# Altium footprint library KF Connector.PcbLib: 12 footprints
Each footprint in its own frame and in the unit in brackets; x right, y up, seen from the top. Pads: shape width x height; smd on the part's side, far side on the other; paste and mask are expansions set on the pad; w line width, h text height; cw(c..) or ccw(c..) is an arc to the next point about the centre after c.
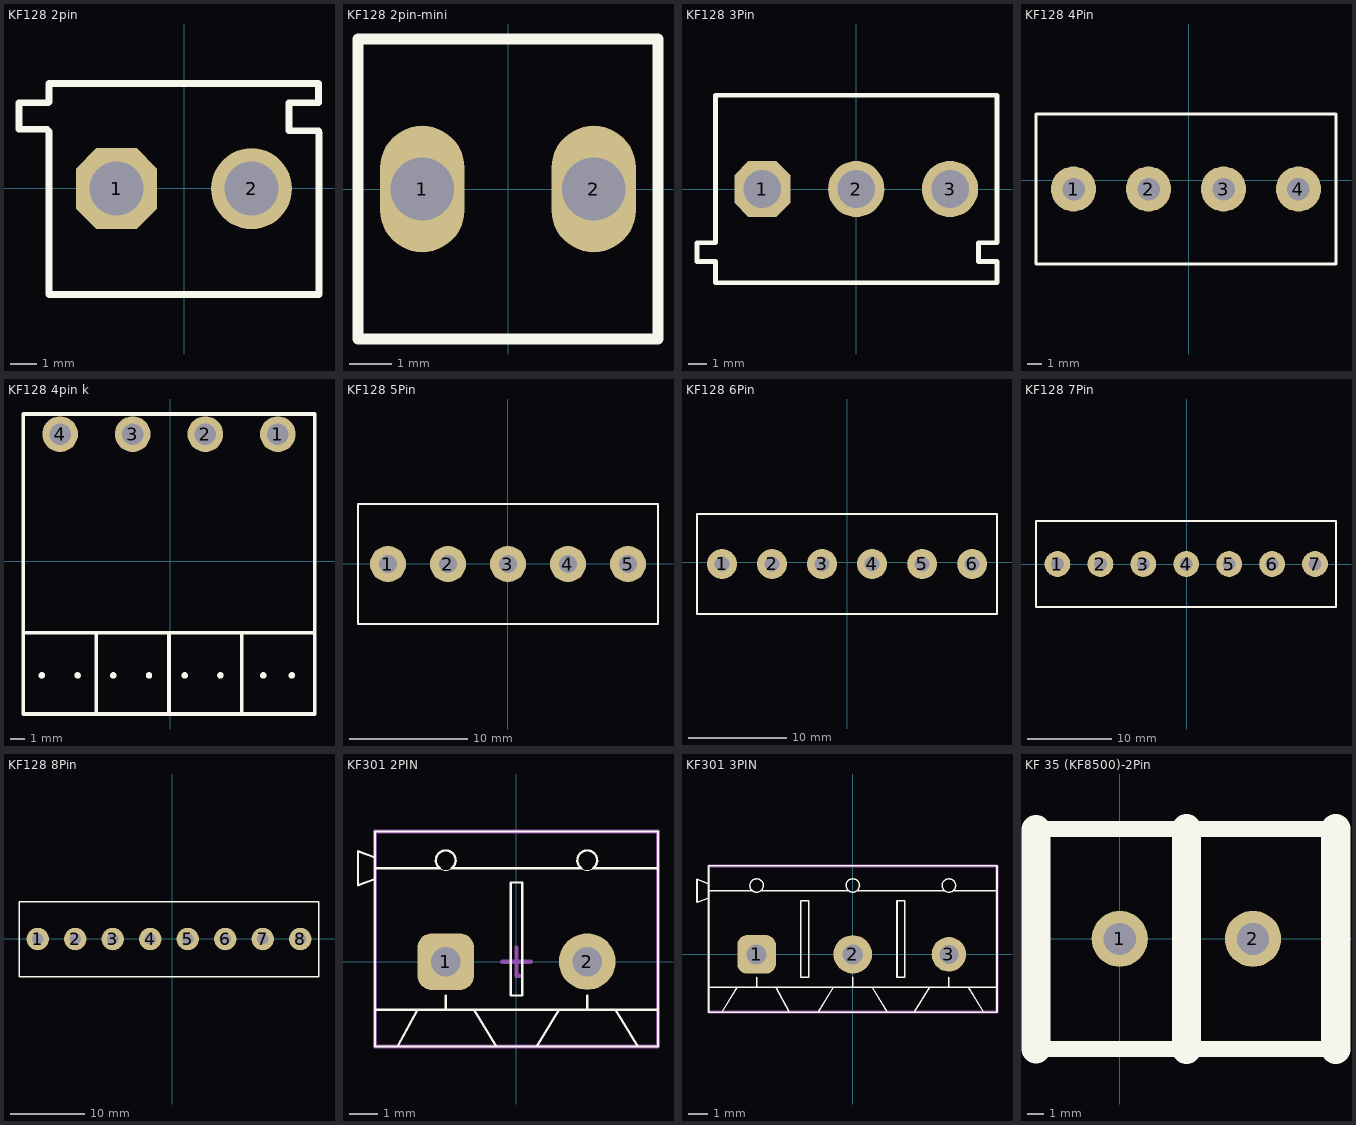
[diagram p0: the footprints below, top view; thin cyan lines are the x and y axes]

## KF128 2pin [mil]
height 393.7
pads (2):
  oct 120x120 hole 80: 1(-100.5,-0.5)
  round 120 hole 80: 2(99.5,-0.5)
Top Overlay:
  lines w10: -245,87.44 -245,126.81 -201.63,126.81 ; -244.37,87.44 -203.58,87.44 -200.5,84.36 ; -200.5,82.68 -200.5,-157.48 199.5,-157.48 199.5,82.68 ; -200.5,127.95 -200.5,155.51 198.82,155.51 198.82,126.81 155,126.81 ; 155,125.47 155,85.47 199,85.47
3D body "SW3dPS-CN_BT_1X2.STEP": height 413.39, standoff -70.23, extent -214.57,-153.54 198.82,149.61

## KF128 2pin-mini [mm]
height 0.6
pads (2):
  oval 2x3 hole 1.5: 1(-2.032,0) 2(2.032,0)
Top Overlay:
  lines w0.254: -3.556,-3.556 3.556,-3.556 3.556,3.556 -3.556,3.556 -3.556,-3.556

## KF128 3Pin [mil]
pads (3):
  oct 120x120 hole 80: 1(-200,0)
  round 120 hole 80: 2(0,0) 3(200,0)
Top Overlay:
  lines w10: -339.5,-115.13 -339.5,-154.5 -300.13,-154.5 ; -339.5,-114.5 -300.13,-114.5 -300.13,199.87 ; -300,-154.63 -300,-200 300,-200 300,-154.63 ; -300,200 300,200 ; 260.5,-115.13 260.5,-154.5 299.87,-154.5 ; 260.5,-114.5 299.87,-114.5 299.87,199.87
3D body "SW3dPS-STELVIO-CII-5-3-250V-17A.STEP": height 413.39, standoff -169.29, extent -295.27,-154.96 295.28,160

## KF128 4Pin [mil]
pads (4):
  round 120 hole 60: 1(-307.92,-22.85) 2(-107.92,-22.85) 3(92.08,-22.85) 4(292.08,-22.85)
Top Overlay:
  lines w8: -407.92,-222.85 -407.92,177.15 392.08,177.15 392.08,-222.85 -407.92,-222.85
3D body "SW3dPS-CN_BT_1X2.STEP": height 393.7, standoff -89.92, extent -9.84,-174.21 403.54,128.94
3D body "SW3dPS-CN_BT_1X2.STEP": height 393.7, standoff -89.92, extent -407.48,-174.21 5.91,128.94

## KF128 4pin k [mm]
height 0.025
pads (4):
  round 2.5 hole 1.5: 1(7.52,8.89) 2(2.44,8.89) 3(-2.64,8.89) 4(-7.72,8.89)
Top Overlay:
  circle w0.254: c-9,-8 r0.1
  circle w0.254: c-6.5,-8 r0.1
  circle w0.254: c-4,-8 r0.1
  circle w0.254: c-1.5,-8 r0.1
  circle w0.254: c1,-8 r0.1
  circle w0.254: c3.5,-8 r0.1
  circle w0.254: c6.5,-8 r0.1
  circle w0.254: c8.5,-8 r0.1
  lines w0.254: -10.3,-5 10.1,-5 ; -5.3,-5 -5.2,-5 -5.2,-10.7 ; -0.2,-5 -0.1,-5 -0.1,-10.7 ; 5,-10.7 5,-5 5.1,-5 ; -10.3,-10.7 10.1,-10.7 10.1,10.3 -10.3,10.3 -10.3,-10.7
3D body "User Library-Connector 4 Pins.STEP": height 17, standoff -2.79, extent -9.984,-11.433 9.984,10.6

## KF128 5Pin [mil]
pads (5):
  round 120 hole 60: 1(-399.45,-1) 2(-199.45,-1) 3(0.55,-1) 4(200.55,-1) 5(400.55,-1)
Top Overlay:
  lines w8: -499.45,-201 500.55,-201 500.55,199 -499.45,199 -499.45,-201
3D body "SW3dPS-STELVIO-CII-5-3-250V-17A.STEP": height 413.39, standoff -169.29, extent -94.73,-155.96 495.82,159
3D body "SW3dPS-CN_BT_1X2.STEP": height 413.39, standoff -70.23, extent -513.52,-154.04 -100.13,149.11

## KF128 6Pin [mil]
pads (6):
  round 120 hole 60: 1(-500.83,-6.12) 2(-300.83,-6.12) 3(-100.83,-6.12) 4(99.17,-6.12) 5(299.17,-6.12) 6(499.17,-6.12)
Top Overlay:
  lines w8: -600.83,-206.12 598.43,-206.12 598.43,193.88 -600.83,193.88 -600.83,-206.12
3D body "SW3dPS-CN_BT_1X2.STEP": height 393.7, standoff -89.92, extent -202.76,-156.5 210.63,146.65
3D body "SW3dPS-CN_BT_1X2.STEP": height 393.7, standoff -89.92, extent -600.39,-156.5 -187.01,146.65
3D body "SW3dPS-CN_BT_1X2.STEP": height 393.7, standoff -89.92, extent 195.87,-157.48 609.25,145.67

## KF128 7Pin [mil]
pads (7):
  round 120 hole 60: 1(-601.97,0.54) 2(-401.97,0.54) 3(-201.97,0.54) 4(-1.97,0.54) 5(198.03,0.54) 6(398.03,0.54) 7(598.03,0.54)
Top Overlay:
  lines w8: -701.97,-199.46 695.87,-199.46 695.87,200.54 -701.97,200.54 -701.97,-199.46

## KF128 8Pin [mil]
pads (8):
  round 120 hole 60: 1(-716.15,-1.43) 2(-516.15,-1.43) 3(-316.15,-1.43) 4(-116.15,-1.43) 5(83.85,-1.43) 6(283.85,-1.43) 7(483.85,-1.43) 8(683.85,-1.43)
Top Overlay:
  lines w8: -816.15,-201.43 -816.15,198.57 783.85,198.57 783.85,-201.43 -816.15,-201.43
3D body "SW3dPS-CN_BT_1X2.STEP": height 393.7, standoff -89.92, extent -416.34,-148.62 -2.95,154.53
3D body "SW3dPS-CN_BT_1X2.STEP": height 393.7, standoff -89.92, extent -813.98,-148.62 -400.59,154.53
3D body "SW3dPS-CN_BT_1X2.STEP": height 393.7, standoff -89.92, extent 379.92,-148.62 793.31,154.53
3D body "SW3dPS-CN_BT_1X2.STEP": height 393.7, standoff -89.92, extent -17.72,-148.62 395.67,154.53

## KF301 2PIN [mm] "Designer Abbas Basereh"
height 7.5
pads (2):
  rrect50% 2x2 hole 1.05: 1(-2.5,0)
  round 2 hole 1.05: 2(2.5,0)
Top Overlay:
  lines w0.013: -2.71,3.3 ccw(c-2.5,3.58) -2.29,3.3 ; 2.29,3.3 ccw(c2.5,3.58) 2.71,3.3
  lines w0.08: -4.2,-3 -3.5,-1.7 -1.5,-1.7 -0.7,-3 ; -2.5,-1.7 -2.5,-1.2 ; 0.7,-3 1.5,-1.7 3.5,-1.7 4.3,-3 ; 2.5,-1.7 2.5,-1.2 ; -5.6,2.7 -5,2.918 ; -5.6,2.7 -5.6,3.9 ; -5.6,2.7 -5,2.918 ; -5.6,2.7 -5.6,3.9 ; -5.6,3.9 -5,3.682 ; -5.6,3.9 -5,3.682 ; -5,-3 -5,-1.7 ; -5,-3 5,-3 ; -5,-3 5,-3 ; -5,-3 -5,2.918 ; -5,-1.7 -5,3.3 ; -5,-1.7 5,-1.7 ; -5,3.3 -5,4.6 ; -5,3.3 -2.71,3.3 cw(c-2.5,3.58) -2.29,3.3 2.29,3.3 cw(c2.5,3.58) 2.71,3.3 5,3.3 ; -5,3.682 -5,4.6 ; -5,4.6 5,4.6 ; -5,4.6 5,4.6 ; 5,-3 5,-1.7 ; 5,-3 5,4.6 ; 5,-1.7 5,3.3 ; 5,3.3 5,4.6 ; -0.2,-1.2 -0.2,2.8 0.2,2.8 0.2,-1.2 -0.2,-1.2
Mechanical 15:
  lines w0.15: -0.5,0 0.5,0 ; 0,0.5 0,-0.5 0.1,-0.5 ; -5,-3 5,-3 5,4.6 -5,4.6 -5,-3
3D body "User Library-Terminal-Screw-3A-2way.STEP": height 10, standoff -3, extent -5.6,-3 5,4.6

## KF301 3PIN [mm] "Designer Abbas Basereh"
height 7.5
pads (3):
  rrect50% 2x2 hole 1.05: 1(-5,0)
  round 2 hole 1.05: 2(0,0)
  round 1.8 hole 1: 3(5,0)
Top Overlay:
  lines w0.08: -6.8,-3 -6,-1.7 -4,-1.7 -3.3,-3 ; -5,-1.7 -5,-1.2 ; -1.8,-3 -1,-1.7 1,-1.7 1.8,-3 ; 0,-1.7 0,-1.2 ; 3.2,-3 4,-1.7 6,-1.7 6.8,-3 ; 5,-1.7 5,-1.2 ; -8.1,2.7 -7.5,2.918 ; -8.1,2.7 -8.1,3.9 ; -8.1,2.7 -8.1,3.9 ; -8.1,2.7 -7.5,2.918 ; -8.1,3.9 -7.5,3.681 ; -8.1,3.9 -7.5,3.681 ; -7.5,-3 -7.5,-1.7 ; -7.5,-3 7.5,-3 ; -7.5,-3 -7.5,2.918 ; -7.5,-3 7.5,-3 ; -7.5,-1.7 -7.5,3.3 ; -7.5,-1.7 7.5,-1.7 ; -7.5,3.3 -7.5,4.6 ; -7.5,3.3 -5.21,3.3 ; -7.5,3.681 -7.5,4.6 ; -7.5,4.6 7.5,4.6 ; -7.5,4.6 7.5,4.6 ; -5.21,3.3 ccw(c-5,3.58) -4.79,3.3 ; -5.21,3.3 cw(c-5,3.58) -4.79,3.3 ; -4.79,3.3 -0.21,3.3 ; -0.21,3.3 ccw(c0,3.58) 0.21,3.3 ; -0.21,3.3 cw(c0,3.58) 0.21,3.3 ; 0.21,3.3 4.79,3.3 ; 4.79,3.3 ccw(c5,3.58) 5.21,3.3 ; 4.79,3.3 cw(c5,3.58) 5.21,3.3 ; 5.21,3.3 7.5,3.3 ; 7.5,-3 7.5,-1.7 ; 7.5,-3 7.5,4.6 ; 7.5,-1.7 7.5,3.3 ; 7.5,3.3 7.5,4.6 ; -2.7,-1.2 -2.3,-1.2 -2.3,2.8 -2.7,2.8 -2.7,-1.2 ; 2.3,-1.2 2.3,2.8 2.7,2.8 2.7,-1.2 2.3,-1.2
Mechanical 15:
  lines w0.15: -7.5,-3 7.5,-3 7.5,4.6 -7.5,4.6 -7.5,-3
3D body "User Library-Terminal-Screw-3A-3way.STEP": height 10, standoff -3, extent -8.1,-3 7.5,4.6

## KF 35 (KF8500)-2Pin [mm]
pads (2):
  round 3.5 hole 2: 1(0,0) 2(8.3,0)
Top Overlay:
  lines w0.203: -5.22,6.813 -5.175,6.858
  lines w1: -5.175,-6.875 13.475,-6.875 ; -5.175,6.858 13.475,6.858
  lines w1.82: -5.22,-6.858 -5.22,6.813 ; 4.15,-6.875 4.15,6.858 ; 13.462,-6.875 13.462,6.858
3D body "User Library-KF7 2 pinos-1.STEP": height 12.6, standoff -6.1, extent -3.175,-6.096 12.065,5.904